# EAGLE library part RPI-CM4 (library RPI-CM4)
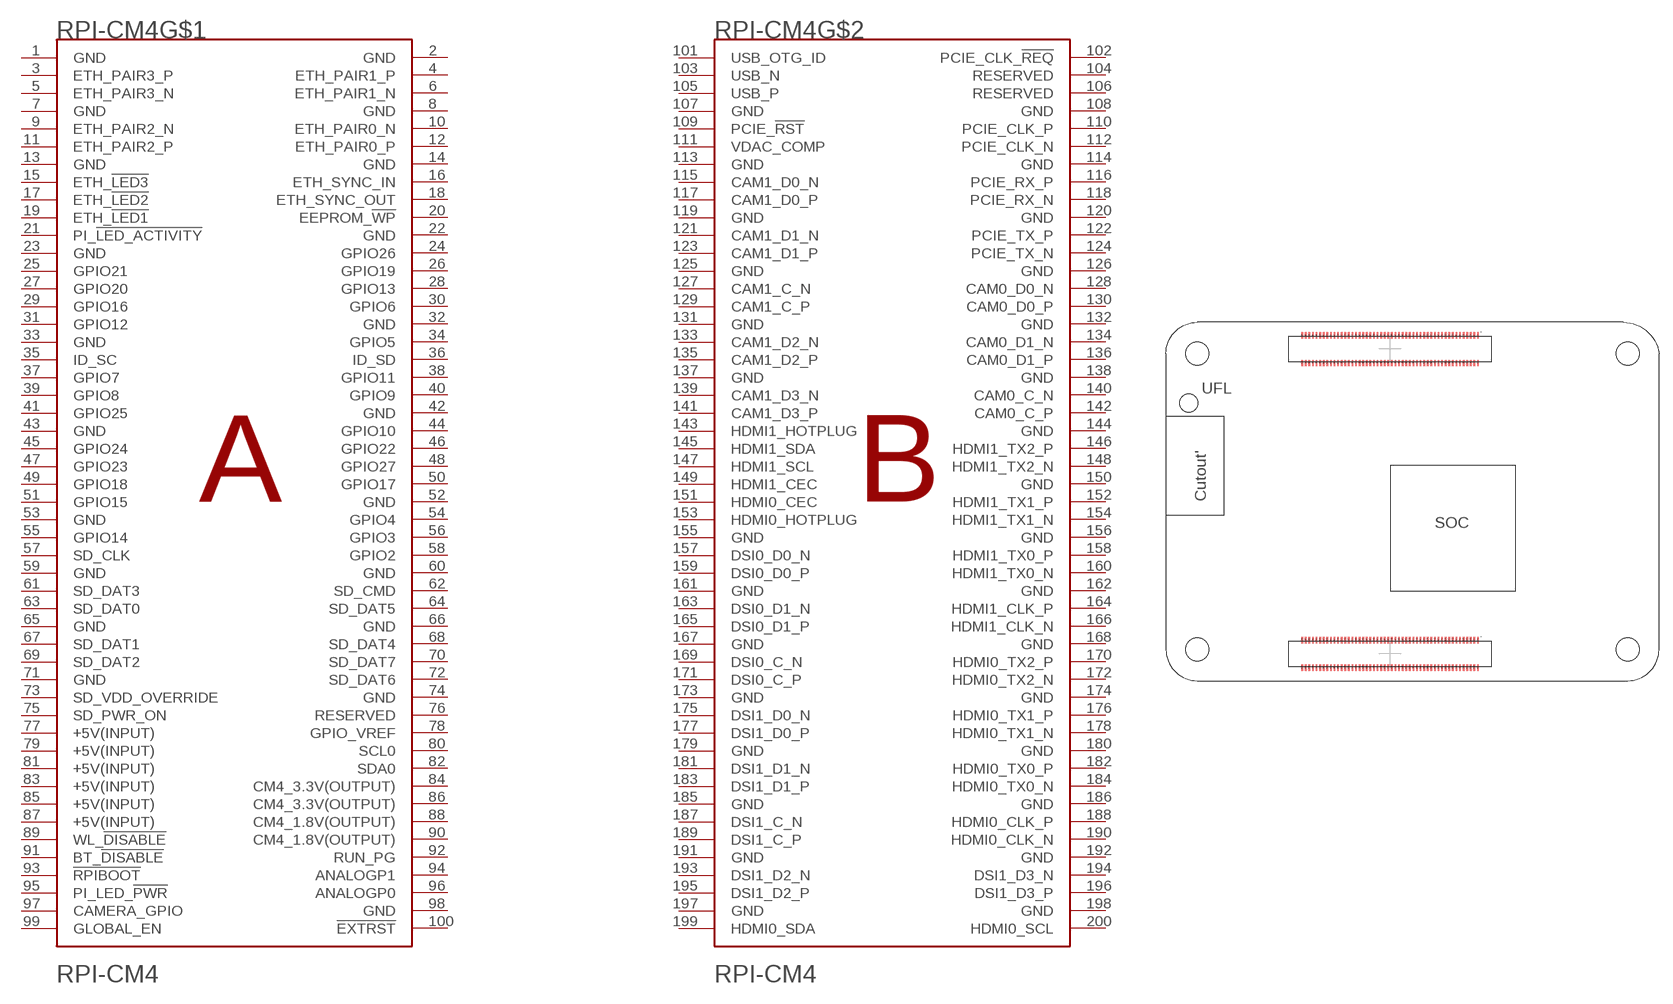
[diagram p0: symbol with the pads of RPI-CM4; footprint RPI-CM4]

Designator prefix RPI-CM4; gates G$1=RPI-CM4-A G$2=RPI-CM4-B

## RPI-CM4  [RPI-CM4]
1  G$1:GND  pas
2  G$1:GND  pas
3  G$1:ETH_PAIR3_P  pas
4  G$1:ETH_PAIR1_P  pas
5  G$1:ETH_PAIR3_N  pas
6  G$1:ETH_PAIR1_N  pas
7  G$1:GND  pas
8  G$1:GND  pas
9  G$1:ETH_PAIR2_N  pas
10  G$1:ETH_PAIR0_N  pas
11  G$1:ETH_PAIR2_P  pas
12  G$1:ETH_PAIR0_P  pas
13  G$1:GND  pas
14  G$1:GND  pas
15  G$1:ETH_!LED3  pas
16  G$1:ETH_SYNC_IN  pas
17  G$1:ETH_!LED2  pas
18  G$1:ETH_SYNC_OUT  pas
19  G$1:ETH_!LED1  pas
20  G$1:EEPROM_!WP  pas
21  G$1:PI_!LED_ACTIVITY  pas
22  G$1:GND  pas
23  G$1:GND  pas
24  G$1:GPIO26  pas
25  G$1:GPIO21  pas
26  G$1:GPIO19  pas
27  G$1:GPIO20  pas
28  G$1:GPIO13  pas
29  G$1:GPIO16  pas
30  G$1:GPIO6  pas
31  G$1:GPIO12  pas
32  G$1:GND  pas
33  G$1:GND  pas
34  G$1:GPIO5  pas
35  G$1:ID_SC  pas
36  G$1:ID_SD  pas
37  G$1:GPIO7  pas
38  G$1:GPIO11  pas
39  G$1:GPIO8  pas
40  G$1:GPIO9  pas
41  G$1:GPIO25  pas
42  G$1:GND  pas
43  G$1:GND  pas
44  G$1:GPIO10  pas
45  G$1:GPIO24  pas
46  G$1:GPIO22  pas
47  G$1:GPIO23  pas
48  G$1:GPIO27  pas
49  G$1:GPIO18  pas
50  G$1:GPIO17  pas
51  G$1:GPIO15  pas
52  G$1:GND  pas
53  G$1:GND  pas
54  G$1:GPIO4  pas
55  G$1:GPIO14  pas
56  G$1:GPIO3  pas
57  G$1:SD_CLK  pas
58  G$1:GPIO2  pas
59  G$1:GND  pas
60  G$1:GND  pas
61  G$1:SD_DAT3  pas
62  G$1:SD_CMD  pas
63  G$1:SD_DAT0  pas
64  G$1:SD_DAT5  pas
65  G$1:GND  pas
66  G$1:GND  pas
67  G$1:SD_DAT1  pas
68  G$1:SD_DAT4  pas
69  G$1:SD_DAT2  pas
70  G$1:SD_DAT7  pas
71  G$1:GND  pas
72  G$1:SD_DAT6  pas
73  G$1:SD_VDD_OVERRIDE  pas
74  G$1:GND  pas
75  G$1:SD_PWR_ON  pas
76  G$1:RESERVED  pas
77  G$1:+5V(INPUT)  pas
78  G$1:GPIO_VREF  pas
79  G$1:+5V(INPUT)  pas
80  G$1:SCL0  pas
81  G$1:+5V(INPUT)  pas
82  G$1:SDA0  pas
83  G$1:+5V(INPUT)  pas
84  G$1:CM4_3.3V(OUTPUT)  pas
85  G$1:+5V(INPUT)  pas
86  G$1:CM4_3.3V(OUTPUT)  pas
87  G$1:+5V(INPUT)  pas
88  G$1:CM4_1.8V(OUTPUT)  pas
89  G$1:WL_!DISABLE  pas
90  G$1:CM4_1.8V(OUTPUT)  pas
91  G$1:BT_!DISABLE  pas
92  G$1:RUN_PG  pas
93  G$1:!RPIBOOT  pas
94  G$1:ANALOGP1  pas
95  G$1:PI_LED_!PWR  pas
96  G$1:ANALOGP0  pas
97  G$1:CAMERA_GPIO  pas
98  G$1:GND  pas
99  G$1:GLOBAL_EN  pas
100  G$1:!EXTRST  pas
101  G$2:USB_OTG_ID  pas
102  G$2:PCIE_CLK_!REQ  pas
103  G$2:USB_N  pas
104  G$2:RESERVED  pas
105  G$2:USB_P  pas
106  G$2:RESERVED  pas
107  G$2:GND  pas
108  G$2:GND  pas
109  G$2:PCIE_!RST  pas
110  G$2:PCIE_CLK_P  pas
111  G$2:VDAC_COMP  pas
112  G$2:PCIE_CLK_N  pas
113  G$2:GND  pas
114  G$2:GND  pas
115  G$2:CAM1_D0_N  pas
116  G$2:PCIE_RX_P  pas
117  G$2:CAM1_D0_P  pas
118  G$2:PCIE_RX_N  pas
119  G$2:GND  pas
120  G$2:GND  pas
121  G$2:CAM1_D1_N  pas
122  G$2:PCIE_TX_P  pas
123  G$2:CAM1_D1_P  pas
124  G$2:PCIE_TX_N  pas
125  G$2:GND  pas
126  G$2:GND  pas
127  G$2:CAM1_C_N  pas
128  G$2:CAM0_D0_N  pas
129  G$2:CAM1_C_P  pas
130  G$2:CAM0_D0_P  pas
131  G$2:GND  pas
132  G$2:GND  pas
133  G$2:CAM1_D2_N  pas
134  G$2:CAM0_D1_N  pas
135  G$2:CAM1_D2_P  pas
136  G$2:CAM0_D1_P  pas
137  G$2:GND  pas
138  G$2:GND  pas
139  G$2:CAM1_D3_N  pas
140  G$2:CAM0_C_N  pas
141  G$2:CAM1_D3_P  pas
142  G$2:CAM0_C_P  pas
143  G$2:HDMI1_HOTPLUG  pas
144  G$2:GND  pas
145  G$2:HDMI1_SDA  pas
146  G$2:HDMI1_TX2_P  pas
147  G$2:HDMI1_SCL  pas
148  G$2:HDMI1_TX2_N  pas
149  G$2:HDMI1_CEC  pas
150  G$2:GND  pas
151  G$2:HDMI0_CEC  pas
152  G$2:HDMI1_TX1_P  pas
153  G$2:HDMI0_HOTPLUG  pas
154  G$2:HDMI1_TX1_N  pas
155  G$2:GND  pas
156  G$2:GND  pas
157  G$2:DSI0_D0_N  pas
158  G$2:HDMI1_TX0_P  pas
159  G$2:DSI0_D0_P  pas
160  G$2:HDMI1_TX0_N  pas
161  G$2:GND  pas
162  G$2:GND  pas
163  G$2:DSI0_D1_N  pas
164  G$2:HDMI1_CLK_P  pas
165  G$2:DSI0_D1_P  pas
166  G$2:HDMI1_CLK_N  pas
167  G$2:GND  pas
168  G$2:GND  pas
169  G$2:DSI0_C_N  pas
170  G$2:HDMI0_TX2_P  pas
171  G$2:DSI0_C_P  pas
172  G$2:HDMI0_TX2_N  pas
173  G$2:GND  pas
174  G$2:GND  pas
175  G$2:DSI1_D0_N  pas
176  G$2:HDMI0_TX1_P  pas
177  G$2:DSI1_D0_P  pas
178  G$2:HDMI0_TX1_N  pas
179  G$2:GND  pas
180  G$2:GND  pas
181  G$2:DSI1_D1_N  pas
182  G$2:HDMI0_TX0_P  pas
183  G$2:DSI1_D1_P  pas
184  G$2:HDMI0_TX0_N  pas
185  G$2:GND  pas
186  G$2:GND  pas
187  G$2:DSI1_C_N  pas
188  G$2:HDMI0_CLK_P  pas
189  G$2:DSI1_C_P  pas
190  G$2:HDMI0_CLK_N  pas
191  G$2:GND  pas
192  G$2:GND  pas
193  G$2:DSI1_D2_N  pas
194  G$2:DSI1_D3_N  pas
195  G$2:DSI1_D2_P  pas
196  G$2:DSI1_D3_P  pas
197  G$2:GND  pas
198  G$2:GND  pas
199  G$2:HDMI0_SDA  pas
200  G$2:HDMI0_SCL  pas

## Footprint RPI-CM4 (pad centres in mm)
smd 0.2 x 0.7: 1 34.8,38.54; 2 34.8,35.46; 3 34.4,38.54; 4 34.4,35.46; 5 34,38.54; 6 34,35.46; 7 33.6,38.54; 8 33.6,35.46; 9 33.2,38.54; 10 33.2,35.46; 11 32.8,38.54; 12 32.8,35.46; 13 32.4,38.54; 14 32.4,35.46; 15 32,38.54; 16 32,35.46; 17 31.6,38.54; 18 31.6,35.46; 19 31.2,38.54; 20 31.2,35.46; 21 30.8,38.54; 22 30.8,35.46; 23 30.4,38.54; 24 30.4,35.46; 25 30,38.54; 26 30,35.46; 27 29.6,38.54; 28 29.6,35.46; 29 29.2,38.54; 30 29.2,35.46; 31 28.8,38.54; 32 28.8,35.46; 33 28.4,38.54; 34 28.4,35.46; 35 28,38.54; 36 28,35.46; 37 27.6,38.54; 38 27.6,35.46; 39 27.2,38.54; 40 27.2,35.46; 41 26.8,38.54; 42 26.8,35.46; 43 26.4,38.54; 44 26.4,35.46; 45 26,38.54; 46 26,35.46; 47 25.6,38.54; 48 25.6,35.46; 49 25.2,38.54; 50 25.2,35.46; 51 24.8,38.54; 52 24.8,35.46; 53 24.4,38.54; 54 24.4,35.46; 55 24,38.54; 56 24,35.46; 57 23.6,38.54; 58 23.6,35.46; 59 23.2,38.54; 60 23.2,35.46; 61 22.8,38.54; 62 22.8,35.46; 63 22.4,38.54; 64 22.4,35.46; 65 22,38.54; 66 22,35.46; 67 21.6,38.54; 68 21.6,35.46; 69 21.2,38.54; 70 21.2,35.46; 71 20.8,38.54; 72 20.8,35.46; 73 20.4,38.54; 74 20.4,35.46; 75 20,38.54; 76 20,35.46; 77 19.6,38.54; 78 19.6,35.46; 79 19.2,38.54; 80 19.2,35.46; 81 18.8,38.54; 82 18.8,35.46; 83 18.4,38.54; 84 18.4,35.46; 85 18,38.54; 86 18,35.46; 87 17.6,38.54; 88 17.6,35.46; 89 17.2,38.54; 90 17.2,35.46; 91 16.8,38.54; 92 16.8,35.46; 93 16.4,38.54; 94 16.4,35.46; 95 16,38.54; 96 16,35.46; 97 15.6,38.54; 98 15.6,35.46; 99 15.2,38.54; 100 15.2,35.46; 101 34.8,4.54; 102 34.8,1.46; 103 34.4,4.54; 104 34.4,1.46; 105 34,4.54; 106 34,1.46; 107 33.6,4.54; 108 33.6,1.46; 109 33.2,4.54; 110 33.2,1.46; 111 32.8,4.54; 112 32.8,1.46; 113 32.4,4.54; 114 32.4,1.46; 115 32,4.54; 116 32,1.46; 117 31.6,4.54; 118 31.6,1.46; 119 31.2,4.54; 120 31.2,1.46; 121 30.8,4.54; 122 30.8,1.46; 123 30.4,4.54; 124 30.4,1.46; 125 30,4.54; 126 30,1.46; 127 29.6,4.54; 128 29.6,1.46; 129 29.2,4.54; 130 29.2,1.46; 131 28.8,4.54; 132 28.8,1.46; 133 28.4,4.54; 134 28.4,1.46; 135 28,4.54; 136 28,1.46; 137 27.6,4.54; 138 27.6,1.46; 139 27.2,4.54; 140 27.2,1.46; 141 26.8,4.54; 142 26.8,1.46; 143 26.4,4.54; 144 26.4,1.46; 145 26,4.54; 146 26,1.46; 147 25.6,4.54; 148 25.6,1.46; 149 25.2,4.54; 150 25.2,1.46; 151 24.8,4.54; 152 24.8,1.46; 153 24.4,4.54; 154 24.4,1.46; 155 24,4.54; 156 24,1.46; 157 23.6,4.54; 158 23.6,1.46; 159 23.2,4.54; 160 23.2,1.46; 161 22.8,4.54; 162 22.8,1.46; 163 22.4,4.54; 164 22.4,1.46; 165 22,4.54; 166 22,1.46; 167 21.6,4.54; 168 21.6,1.46; 169 21.2,4.54; 170 21.2,1.46; 171 20.8,4.54; 172 20.8,1.46; 173 20.4,4.54; 174 20.4,1.46; 175 20,4.54; 176 20,1.46; 177 19.6,4.54; 178 19.6,1.46; 179 19.2,4.54; 180 19.2,1.46; 181 18.8,4.54; 182 18.8,1.46; 183 18.4,4.54; 184 18.4,1.46; 185 18,4.54; 186 18,1.46; 187 17.6,4.54; 188 17.6,1.46; 189 17.2,4.54; 190 17.2,1.46; 191 16.8,4.54; 192 16.8,1.46; 193 16.4,4.54; 194 16.4,1.46; 195 16,4.54; 196 16,1.46; 197 15.6,4.54; 198 15.6,1.46; 199 15.2,4.54; 200 15.2,1.46
hole 2.55 at 3.5,3.5
hole 2.55 at 3.5,36.5
hole 2.55 at 51.5,36.5
hole 2.55 at 51.5,3.5